# Altium schematic symbol library 三极管.SchLib: 6 symbols
Pins are listed as number, name and electrical type; pins without a type are passive.

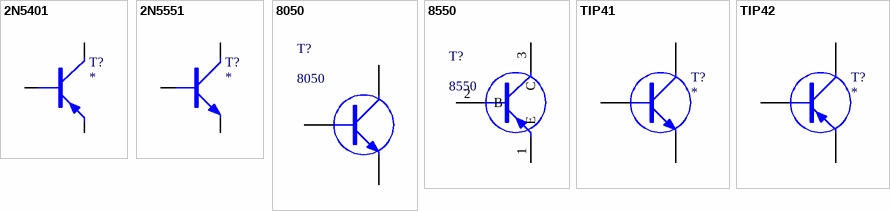
[diagram p0: symbols 2N5401 to TIP42]

## 2N5401
designator T?
PNP,小功率
footprint TO-92B
footprint TO-92A
pins: 1 E, 2 B, 3 C

## 2N5551
designator T?
NPN,小功率
footprint TO-92A
footprint TO-92B
pins: 1 E, 2 B, 3 C

## 8050
designator T?
NPN型三极管
footprint STO-23; pin to pad 1>2 2>1
footprint TO-92A
footprint TO-92B
footprint TO-92C
pins: 1 E, 2 B, 3 C

## 8550
designator T?
PNP型三极管
footprint TO92C
pins: 1 E, 2 B, 3 C

## TIP41
designator T?
NPN PLASTIC POWER TRANSISTORS
footprint TO-220
pins: 1 B, 2 C, 3 E

## TIP42
designator T?
PNP PLASTIC POWER TRANSISTORS
footprint TO-220
pins: 1 B, 2 C, 3 E